# Altium integrated library BLE112.IntLib: 1 symbol
Pins are listed as number, name and electrical type; pins without a type are passive.

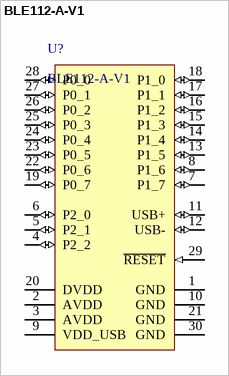
[diagram p0: symbol BLE112-A-V1]

## BLE112-A-V1
designator U?
Bluetooth(R) Low Energy Single Mode Module / , 2 to 3.6 V, -40 to 85 degC, 30-Pin SMD, RoHS, Tape and Reel; Min Supply Voltage: 2.1 V; Max Supply Voltage: 3.6 V; RoHSCompliant: true; ComponentLink1Description: Manufacturer URL; Min Operating Temperature: -40 degC; ComponentLink2Description: Datasheet; DatasheetVersion: Rev. 1.4, 05/2013; ComponentLink1URL: www.bluegiga.com; Packaging: Cut Tape; Pins: 64; REACH SVHC: No SVHC; Max Operating Temperature: 85 degC; PackageDescription: 30-Pin Surface Mount Device, Body 12.05 x 18.1 mm, Pitch 1.25 mm; ComponentLink2URL: http://www.mouser.com/ds/2/368/Bluegiga_Technologies_BLE112_Datasheet-558666.pdf; PackageReference: BLE112-A-V1; PartNumber: BLE112-A-V1
footprint BLUE-BLE112-A-V1_V
pins: 1 GND (power), 2 AVDD (power) "Supply voltage 2V - 3.6V", 3 AVDD (power) "Supply voltage 2V - 3.6V", 4 P2_2 (io) "Configurable I/O port", 5 P2_1 (io) "Configurable I/O port", 6 P2_0 (io) "Configurable I/O port", 7 P1_7 (io) "Configurable I/O port", 8 P1_6 (io) "Configurable I/O port", 9 VDD_USB (power) "Supply voltage 2V - 3.6V", 10 GND (power), 11 USB+ (io) "USB data plus", 12 USB- (io) "USB data minus", 13 P1_5 (io) "Configurable I/O port", 14 P1_4 (io) "Configurable I/O port", 15 P1_3 (io) "Configurable I/O port", 16 P1_2 (io) "Configurable I/O port", 17 P1_1 (io) "Configurable I/O port with 20mA driving capability", 18 P1_0 (io) "Configurable I/O port with 20mA driving capability", 19 P0_7 (io) "Configurable I/O port", 20 DVDD (power) "Supply voltage 2V - 3.6V", 21 GND (power), 22 P0_6 (io) "Configurable I/O port", 23 P0_5 (io) "Configurable I/O port", 24 P0_4 (io) "Configurable I/O port", 25 P0_3 (io) "Configurable I/O port", 26 P0_2 (io) "Configurable I/O port", 27 P0_1 (io) "Configurable I/O port", 28 P0_0 (io) "Configurable I/O port", 29 ~{RESET} (in) "Active low reset.", 30 GND (power)